# Altium schematic symbol library IR Receiver.SchLib: 3 symbols
Pins are listed as number, name and electrical type; pins without a type are passive.

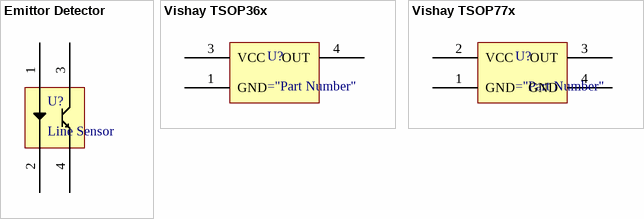
[diagram p0: symbols Emittor Detector to Vishay TSOP77x]

## Emittor Detector
designator U?, comment Line Sensor
pins: 1, 2, 3, 4

## Vishay TSOP36x
designator U?
pins: 1 GND, 3 VCC, 4 OUT

## Vishay TSOP77x
designator U?
pins: 1 GND, 2 VCC, 3 OUT, 4 GND